# Altium footprint library JST-B3B-PH-SM4-TB(LF)(SN).PcbLib: 1 footprints
Each footprint in its own frame and in the unit in brackets; x right, y up, seen from the top. Pads: shape width x height; smd on the part's side, far side on the other; paste and mask are expansions set on the pad; w line width, h text height; cw(c..) or ccw(c..) is an arc to the next point about the centre after c.
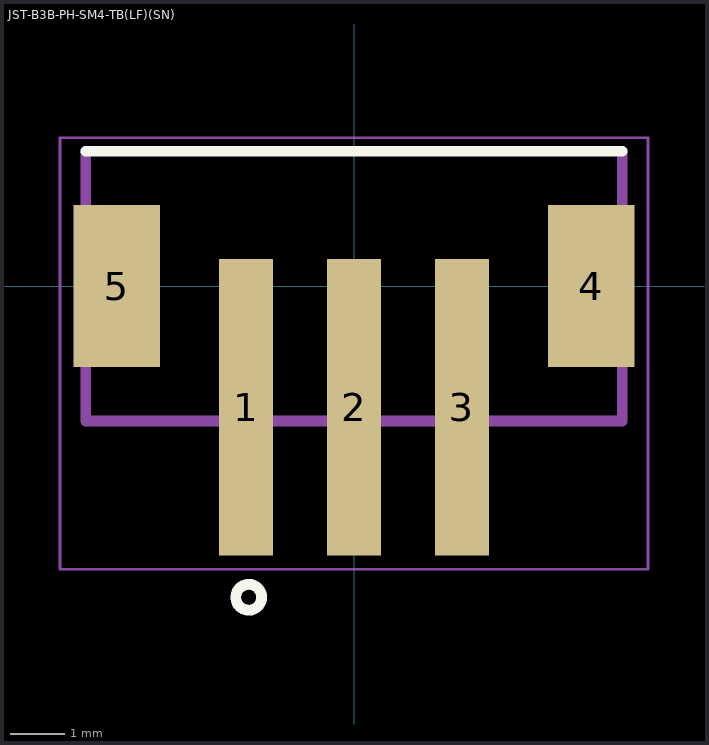
[diagram p0: the footprint, top view; thin cyan lines are the x and y axes]

## JST-B3B-PH-SM4-TB(LF)(SN) [mm]
pads (5):
  rect 1x5.5 smd: 1(-2,-2.25) 2(0,-2.25) 3(2,-2.25)
  rect 1.6x3 smd: 4(4.4,0) 5(-4.4,0)
Top Overlay:
  circle w0.2: c-1.953,-5.77 r0.24
  lines w0.2: -4.975,2.5 4.975,2.5
Mechanical 13:
  lines w0.2: -4.975,2.5 -4.975,-2.5 4.975,-2.5 4.975,2.5
Mechanical 15:
  lines w0.05: -5.45,-5.25 -5.45,2.75 5.45,2.75 5.45,-5.25 -5.45,-5.25
3D body "step_temp.STEP": height 6.6, standoff -0.15, extent -4.975,-4.5 4.975,2.5